# EAGLE library part PMOS-1G-1S-4D (library daqcs)
MOSFET P-CH 30V 8A TSOP-6
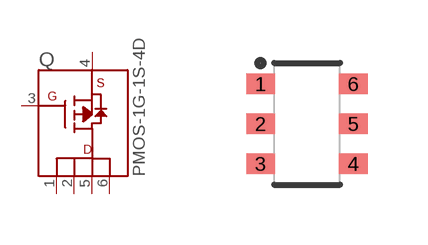
[diagram p9: symbol with the pads of TSOP-6; footprint TSOP-6]

Designator prefix Q

## PMOS-1G-1S-4D_PMOS-6P_TSOP-6 (CONTINUOUS_DRAIN_CURRENT: 8.0A; DATASHEET: HW/docs/projects/raspi_zero_power_sensor_hat/datasheets/wdt_reset/si3421dv.pdf; FET_TYPE: PMOS, ENHANCEMENT; MANUFACTURER: Vishay; MANUFACTURER_PN: SI3421DV-T1-GE3; POWER_MAX: 4.2W; RDS_ON_MAX: 19.2 mOhm @ 7A, 10V; VALUE: PMOS-ENHANCE-8A; VDS: 30.0V; VENDOR: Digi-key; VENDOR_PN: SI3421DV-T1-GE3CT-ND; VGS_MAX: 3.0V @ 250µA)  [TSOP-6]
1  D
2  D
3  G
4  S
5  D
6  D

## Footprint TSOP-6 (pad centres in mm)
smd 0.72 x 0.52: 1 -1.16,1; 2 -1.16,0; 3 -1.16,-1; 4 1.16,-1; 5 1.16,0; 6 1.16,1